# EAGLE library part ADS7868IDBVR (library SW_Conversion)
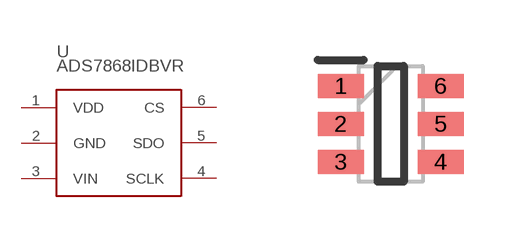
[diagram p0: symbol with the pads of SOT95P280X145-6N; footprint SOT95P280X145-6N]

Designator prefix U

## ADS7868IDBVR (CATEGORY: ADC; DESCRIPTION: 8 Bit Analog to Digital Converter 1 Input 1 SAR SOT-23-6; MFGS: Texas Instruments; MPNS: ADS7868IDBVR; PACKAGE: SOT23-6)  [SOT95P280X145-6N]
1  VDD
2  GND
3  VIN
4  SCLK
5  SDO
6  CS

## Footprint SOT95P280X145-6N (pad centres in mm)
RT-6 BSC (SOT23)
smd 1.15 x 0.6: 1 -1.25,0.95; 2 -1.25,0; 3 -1.25,-0.95; 4 1.25,-0.95; 5 1.25,0; 6 1.25,0.95